# Altium schematic symbol library ISO124P.SchLib: 1 symbol
Pins are listed as number, name and electrical type; pins without a type are passive.

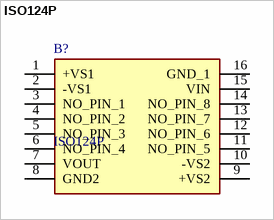
[diagram p0: symbol ISO124P]

## ISO124P
designator B?
Isolating amplifier,ISO124P DIP16 1500V; Manufacturer_Name: Texas Instruments; Geometry.Height: 5.33mm; Manufacturer_Part_Number: ISO124P; Mouser Part Number: 595-ISO124P; Mouser Price/Stock: https://www.mouser.co.uk/ProductDetail/Texas-Instruments/ISO124P?qs=VBduBm9rCJRWjOmDxakXgA%3D%3D; Arrow Part Number: ISO124P; Arrow Price/Stock: https://www.arrow.com/en/products/iso124p/texas-instruments?region=nac; Datasheet Link: http://componentsearchengine.com/Datasheets/1/ISO124P.pdf
footprint DIP794W56P254L2000H533Q16N
pins: 1 +VS1, 2 -VS1, 3 NO_PIN_1, 4 NO_PIN_2, 5 NO_PIN_3, 6 NO_PIN_4, 7 VOUT, 8 GND2, 9 +VS2, 10 -VS2, 11 NO_PIN_5, 12 NO_PIN_6, 13 NO_PIN_7, 14 NO_PIN_8, 15 VIN, 16 GND_1